# EAGLE library part TS3A44159 (library switches)
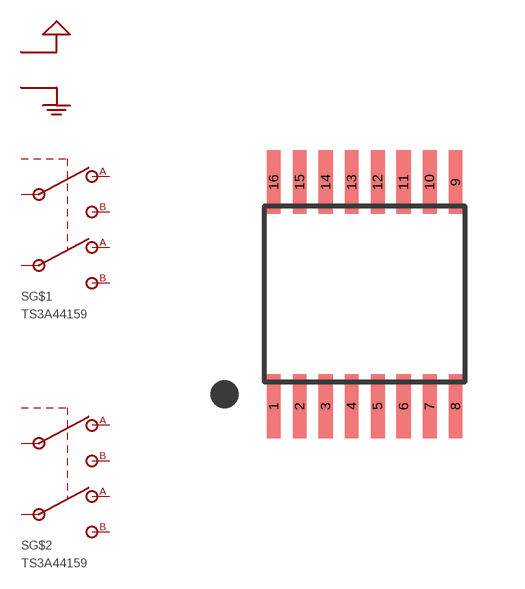
[diagram p8: symbol with the pads of R-PDSO-G16; footprint R-PDSO-G16]

Designator prefix S; gates G$1=DPDT-DIGITAL G$2=DPDT-DIGITAL G$3=PWR

## TS3A44159PWR (DIGIKEY: 296-21915-1-ND)  [R-PDSO-G16]
1  G$1:B0
2  G$1:B
3  G$1:B1
4  G$3:GND
5  G$2:A0
6  G$2:A
7  G$2:A1
8  G$2:CTRL
9  G$2:B0
10  G$2:B
11  G$2:B1
12  G$3:VCC
13  G$1:A0
14  G$1:A
15  G$1:A1
16  G$1:CTRL

## Footprint R-PDSO-G16 (pad centres in mm)
smd 0.35 x 1.6: 1 -2.275,-2.8; 2 -1.625,-2.8; 3 -0.975,-2.8; 4 -0.325,-2.8; 5 0.325,-2.8; 6 0.975,-2.8; 7 1.625,-2.8; 8 2.275,-2.8; 9 2.275,2.8; 10 1.625,2.8; 11 0.975,2.8; 12 0.325,2.8; 13 -0.325,2.8; 14 -0.975,2.8; 15 -1.625,2.8; 16 -2.275,2.8